# EAGLE library part RS232 (library jason-test)
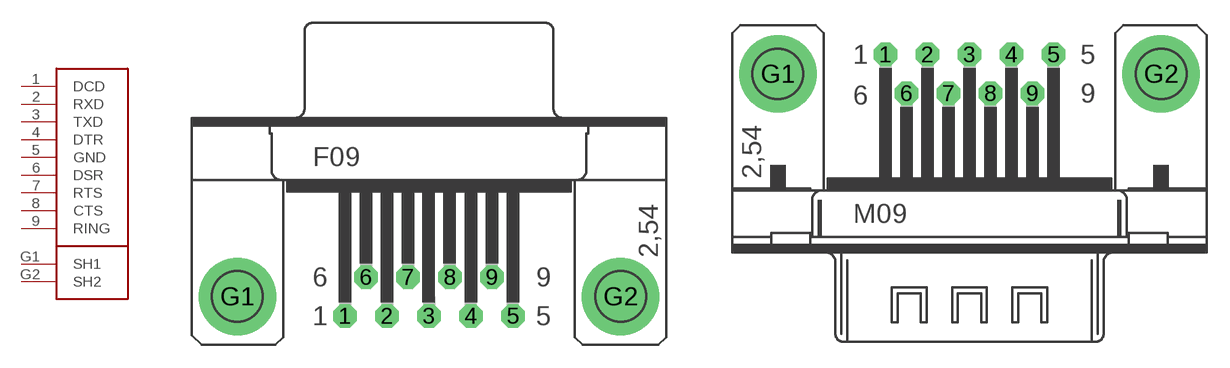
[diagram p8: symbol with the pads of F09HP; footprints F09HP, M09HP]

Designator prefix -

## RS232F  [F09HP]
1  DCD
2  RXD
3  TXD
4  DTR
5  GND  pwr
6  DSR
7  RTS
8  CTS
9  RING
G1  SH1  pwr
G2  SH2  pwr

## RS232M  [M09HP]
Pads as for F09HP

## Footprint F09HP (pad centres in mm)
SUB-D
drill 1.016 octagon: 1 -5.486,-1.27; 2 -2.743,-1.27; 3 0,-1.27; 4 2.743,-1.27; 5 5.486,-1.27; 6 -4.115,1.27; 7 -1.372,1.27; 8 1.372,1.27; 9 4.115,1.27
drill 3.302 pad 5.08 round: G1 -12.522,0; G2 12.522,0

## Footprint M09HP (pad centres in mm)
SUB-D
drill 1.016 octagon: 1 -5.486,1.27; 2 -2.743,1.27; 3 0,1.27; 4 2.743,1.27; 5 5.486,1.27; 6 -4.115,-1.27; 7 -1.372,-1.27; 8 1.372,-1.27; 9 4.115,-1.27
drill 3.302 pad 5.08 round: G1 -12.522,0; G2 12.522,0